# Altium schematic symbol library ISO1050.Schlib: 1 symbol
Pins are listed as number, name and electrical type; pins without a type are passive.

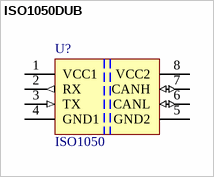
[diagram p0: symbol ISO1050DUB]

## ISO1050DUB
designator U?, comment ISO1050
Isolated CAN Interface; Наименование: ISO1050DUB; Назначение: изолятор CAN; Потребление, Вт: 0.2; ComponentLink1Description: New link; ComponentLink1URL: https://static.chipdip.ru/lib/143/DOC004143969.pdf
footprint PDSO-8
pins: 1 VCC1 (power), 2 RX (out), 3 TX (in), 4 GND1 (power), 5 GND2 (power), 6 CANL (io), 7 CANH (io), 8 VCC2 (power)